# Altium schematic symbol library regulatory.SchLib: 1 symbol
Pins are listed as number, name and electrical type; pins without a type are passive.

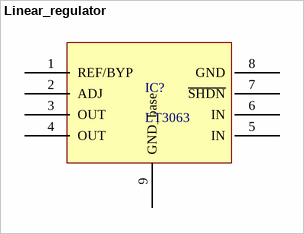
[diagram p0: symbol Linear_regulator]

## Linear_regulator
designator IC?, comment LT3063
Manufacterer: Linear Technology; Model name: LT3063; Pin count: 8; Package: SO-8; Footprint type: SMD
footprint 8-Lead Plastic MSOP
pins: 1 REF/BYP, 2 ADJ, 3 OUT, 4 OUT, 5 IN, 6 IN, 7 ~{SHDN}, 8 GND, 9 GND_base